# EAGLE library part STM32C011J (library stm32c0)
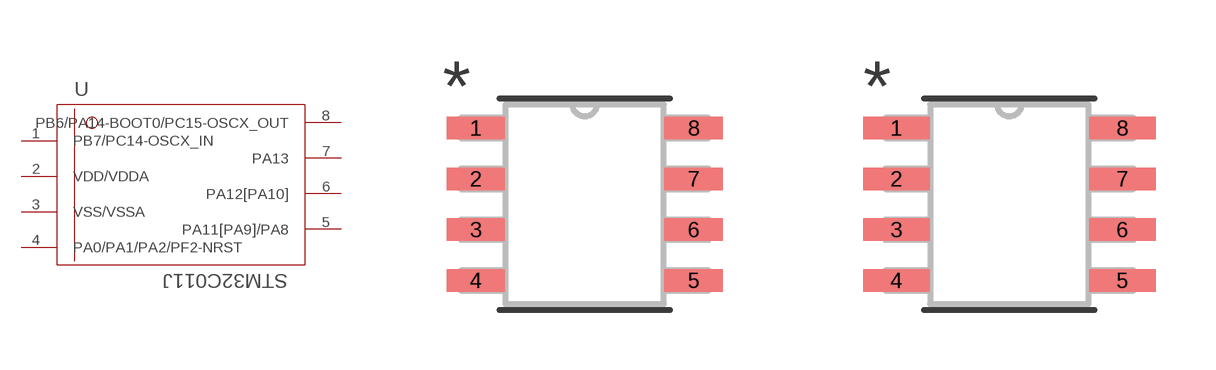
[diagram p1: symbol with the pads of SO-8; footprints SO-8, SO-8-M]

Designator prefix U

## STM32C011J (COPYRIGHT: Copyright (C) 2024 Ultra Librarian. All rights reserved.; MANUFACTURER_PART_NUMBER: STM32C011J4M6; MFR_NAME: STMicroelectronics)  [SO-8]
1  PB7/PC14-OSCX_IN
2  VDD/VDDA  pwr
3  VSS/VSSA  pwr
4  PA0/PA1/PA2/PF2-NRST
5  PA11[PA9]/PA8
6  PA12[PA10]
7  PA13
8  PB6/PA14-BOOT0/PC15-OSCX_OUT

## STM32C011JSO-8_STM-M (COPYRIGHT: Copyright (C) 2024 Ultra Librarian. All rights reserved.; MANUFACTURER_PART_NUMBER: STM32C011J4M6; MFR_NAME: STMicroelectronics)  [SO-8-M]
Pads as for SO-8

## STM32C011JSO-8_STM-L (COPYRIGHT: Copyright (C) 2024 Ultra Librarian. All rights reserved.; MANUFACTURER_PART_NUMBER: STM32C011J4M6; MFR_NAME: STMicroelectronics)  [SO-8-L]
Pads as for SO-8

## Footprint SO-8 (pad centres in mm)
smd 1.46 x 0.559: 1 -2.724,1.905; 2 -2.724,0.635; 3 -2.724,-0.635; 4 -2.724,-1.905; 5 2.724,-1.905; 6 2.724,-0.635; 7 2.724,0.635; 8 2.724,1.905

## Footprint SO-8-M (pad centres in mm)
smd 1.664 x 0.559: 1 -2.826,1.905; 2 -2.826,0.635; 3 -2.826,-0.635; 4 -2.826,-1.905; 5 2.826,-1.905; 6 2.826,-0.635; 7 2.826,0.635; 8 2.826,1.905

## Footprint SO-8-L (pad centres in mm)
smd 1.257 x 0.508: 1 -2.623,1.905; 2 -2.623,0.635; 3 -2.623,-0.635; 4 -2.623,-1.905; 5 2.623,-1.905; 6 2.623,-0.635; 7 2.623,0.635; 8 2.623,1.905